# EAGLE library part TQ2SA-3V-Z (library Relay)
RELAY TELECOM DPDT 2A 3VDC Manufacturer's datasheet <https://b2b-api.panasonic.eu/file_stream/pids/fileversion/4514>
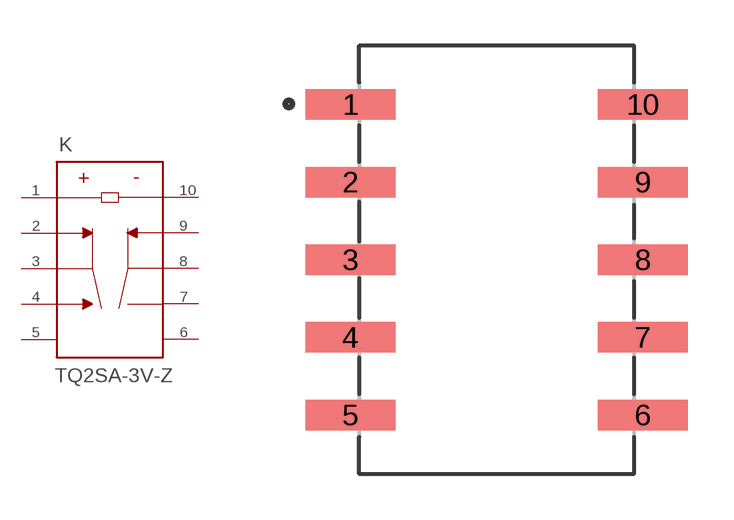
[diagram p7: symbol with the pads of TQ2SA-3V-Z; footprint TQ2SA-3V-Z]

Designator prefix K

## TQ2SA-3V-Z (CREATED_BY: PCBLayout.com; DIGIKEY_PN: 255-1228-2-ND; MANUFACTURER: Panasonic Electric Works; MPN: TQ2SA-3V-Z)  [TQ2SA-3V-Z]
1  1  pas
2  2  pas
3  3  pas
4  4  pas
5  5  pas
6  6  pas
7  7  pas
8  8  pas
9  9  pas
10  10  pas

## Footprint TQ2SA-3V-Z (pad centres in mm)
smd 2.94 x 1: 1 -4.78,5.08; 2 -4.78,2.54; 3 -4.78,0; 4 -4.78,-2.54; 5 -4.78,-5.08; 6 4.78,-5.08; 7 4.78,-2.54; 8 4.78,0; 9 4.78,2.54; 10 4.78,5.08